# Altium footprint library TH Active.PcbLib: 11 footprints
Each footprint in its own frame and in the unit in brackets; x right, y up, seen from the top. Pads: shape width x height; smd on the part's side, far side on the other; paste and mask are expansions set on the pad; w line width, h text height; cw(c..) or ccw(c..) is an arc to the next point about the centre after c.
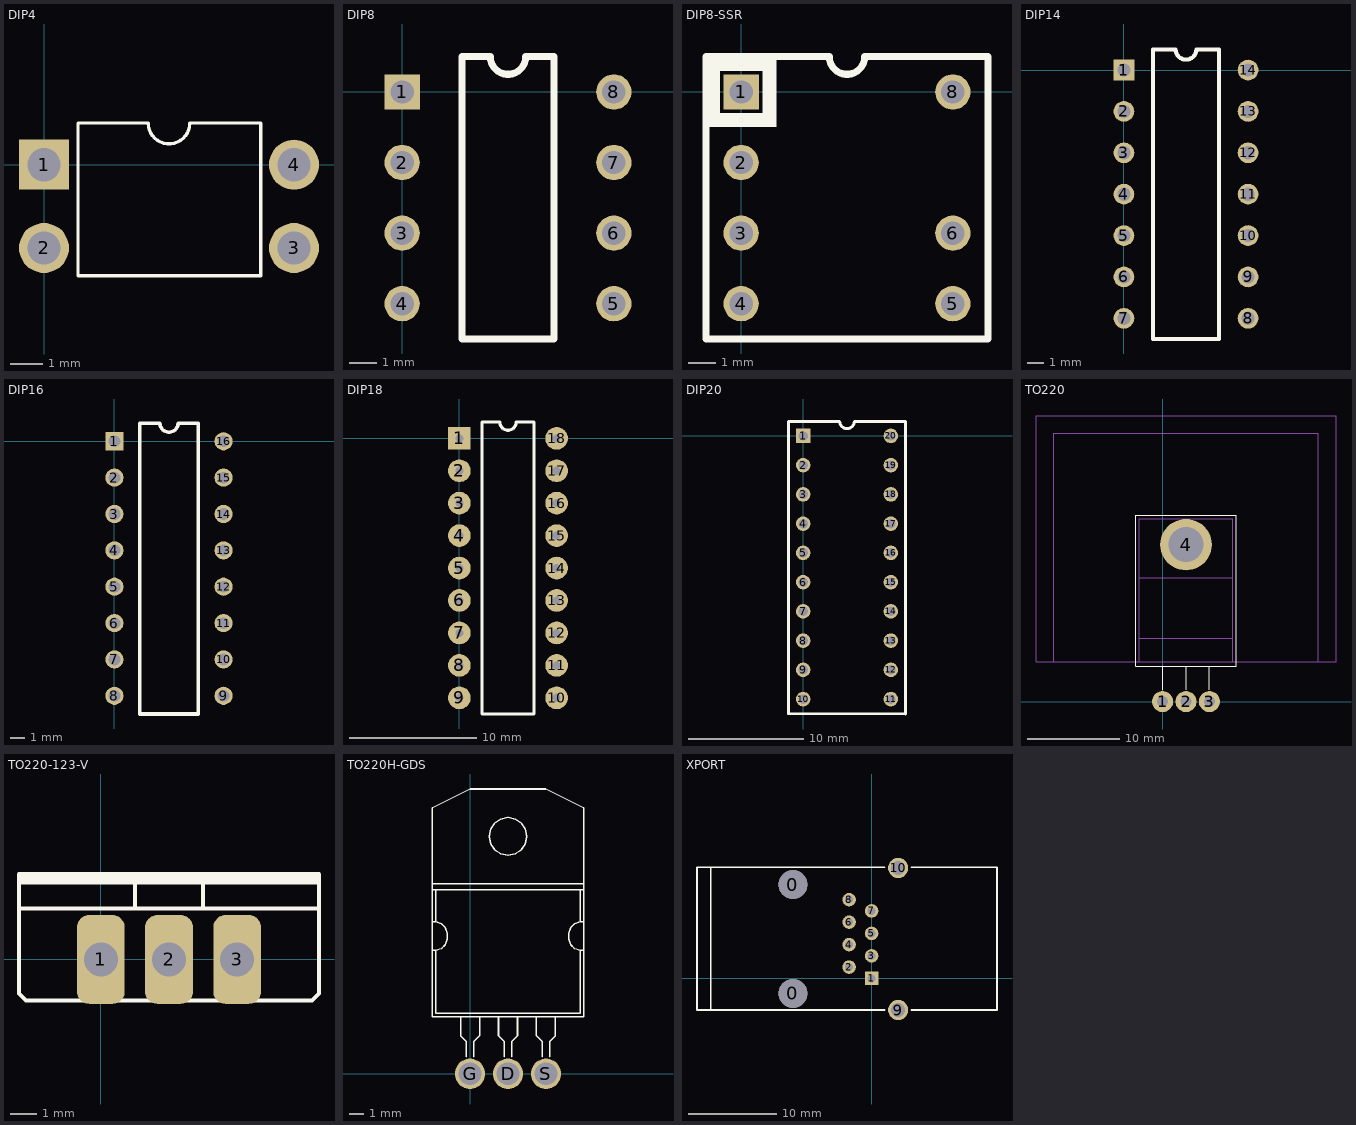
[diagram p0: the footprints below, top view; thin cyan lines are the x and y axes]

## DIP4 [mil]
pads (4):
  rect 60x60 hole 40: 1(0,0)
  round 60 hole 40: 2(0,-100) 3(300,-100) 4(300,0)
Top Overlay:
  lines w4: 40.71,-133.46 260.28,-133.46 260.28,50 175,50 cw(c150,50) 125,50 40.71,50 40.71,-133.46

## DIP8 [mil]
pads (8):
  rect 50x50 hole 33: 1(0,0)
  round 50 hole 33: 2(0,-100) 3(0,-200) 4(0,-300) 5(300,-300) 6(300,-200) 7(300,-100) 8(300,0)
Top Overlay:
  lines w10: 85,-350 85,50 125,50 ccw(c150,50) 175,50 215,50 215,-350 85,-350

## DIP8-SSR [mil]
pads (7):
  rect 50x50 hole 33: 1(0,0)
  round 50 hole 33: 2(0,-100) 3(0,-200) 4(0,-300) 5(300,-300) 6(300,-200) 8(300,0)
Top Overlay:
  rectangle: -50,-40 -30,50
  rectangle: -50,30 30,50
  rectangle: 30,-50 50,50
  rectangle: -45,-50 40,-30
  lines w10: -50,-350 -50,50 125,50 ccw(c150,50) 175,50 350,50 350,-350 -50,-350
3D body: height 200, standoff -98.03, extent -4.92,-364.96 304.93,64.96

## DIP14 [mil]
pads (14):
  rect 50x50 hole 32: 1(0,0)
  round 50 hole 32: 2(0,-100) 3(0,-200) 4(0,-300) 5(0,-400) 6(0,-500) 7(0,-600) 8(300,-600) 9(300,-500) 10(300,-400) 11(300,-300) 12(300,-200) 13(300,-100) 14(300,0)
Top Overlay:
  lines w10: 70,-650 230,-650 230,50 175,50 cw(c150,50) 125,50 70,50 70,-650

## DIP16 [mil]
pads (16):
  rect 50x50 hole 32: 1(0,0)
  round 50 hole 32: 2(0,-100) 3(0,-200) 4(0,-300) 5(0,-400) 6(0,-500) 7(0,-600) 8(0,-700) 9(300,-700) 10(300,-600) 11(300,-500) 12(300,-400) 13(300,-300) 14(300,-200) 15(300,-100) 16(300,0)
Top Overlay:
  lines w10: 70,-750 230,-750 230,50 175,50 cw(c150,50) 125,50 70,50 70,-750

## DIP18 [mil]
pads (18):
  rect 70x70 hole 25: 1(0,0)
  round 70 hole 25: 2(0,-100) 3(0,-200) 4(0,-300) 5(0,-400) 6(0,-500) 7(0,-600) 8(0,-700) 9(0,-800) 10(300,-800) 11(300,-700) 12(300,-600) 13(300,-500) 14(300,-400) 15(300,-300) 16(300,-200) 17(300,-100) 18(300,0)
Top Overlay:
  lines w10: 70,-850 70,50 125,50 ccw(c150,50) 175,50 230,50 230,-850 70,-850

## DIP20 [mil]
pads (20):
  rect 50x50 hole 32: 1(0,0)
  round 50 hole 32: 2(0,-100) 3(0,-200) 4(0,-300) 5(0,-400) 6(0,-500) 7(0,-600) 8(0,-700) 9(0,-800) 10(0,-900) 11(300,-900) 12(300,-800) 13(300,-700) 14(300,-600) 15(300,-500) 16(300,-400) 17(300,-300) 18(300,-200) 19(300,-100) 20(300,0)
Top Overlay:
  lines w10: -49.84,-950 349.84,-950.98 349.84,49.02 175,50 cw(c150,50) 125,50 -49.84,50 -49.84,-950

## TO220 [mil]
pads (4):
  round 90 hole 48: 1(0,0) 2(100,0) 3(200,0)
  round 220 hole 150: 4(100,670)
Top Overlay:
  lines w5: 0,51.6 0,150 ; 100,51.6 100,150 ; 200,51.6 200,150 ; 100,150 314.5,150 314.5,796 100,796 -114.5,796 -114.5,150 100,150
Mechanical 2:
  lines w0.1: -465.5,170 -465.5,1145 100,1145 665.5,1145 665.5,170 ; -100.5,270 300.5,270 ; -100.5,528 300.5,528 ; -100.5,170 300.5,170 ; -100.5,170 -100.5,780 300.5,780 300.5,170 ; -100.5,170 -540.5,170 -540.5,1220 740.5,1220 740.5,170 300.5,170

## TO220-123-V [mil] "TO220 123 pin numbering Vertical mount"
pads (3):
  rrect50% 70x130 hole 50: 1(0,0) 2(100,0) 3(200,0)
Top Overlay:
  rectangle: -120,110 320,125
  lines w6: -120,75 320,75 ; 50,75 50,125 ; 150,75 150,125 ; -120,-50 -120,125 320,125 320,-50 310,-60 -110,-60 -120,-50
3D body: height 944.72, standoff -210, extent -120.72,-58.85 320.74,125.8

## TO220H-GDS [mil]
pads (3):
  round 80 hole 60: D(100,0) G(0,0) S(200,0)
Top Overlay:
  lines w4: -100,325 -90,325 ; -100,400 -90,400 ; -100,485 300,485 ; -100,500 300,500 ; -90,485 -90,400 ; -25,150 -25,100 -10,85 -10,45 ; 10,45 10,85 25,100 25,150 ; 75,150 75,100 90,85 90,45 ; 110,45 110,85 125,100 125,150 ; 175,150 175,100 190,85 190,45 ; 210,45 210,85 225,100 225,150 ; 290,485 290,400 ; 300,325 290,325 ; 300,400 290,400 ; -90,325 -75,330 -65,340 -60,355 -60,370 -65,385 -75,395 -90,400 ; -90,325 -90,160 290,160 290,325 ; 290,325 275,330 265,340 260,355 260,370 265,385 275,395 290,400 ; -100,150 -100,700 0,750 200,750 300,700 300,150 -100,150 ; 50,625 55,645 65,660 80,670 100,675 120,670 135,660 145,645 150,625 145,605 135,590 120,580 100,575 80,580 65,590 55,605 50,625
3D body: height 12, standoff -62, extent -100,150 300,750
3D body: height 132, standoff 12, extent -100,150 300,500
3D body: height 80, standoff -120, extent -20,-20 20,20
3D body: height 100, standoff 70, extent -35,-20 35,150
3D body: height 80, standoff -120, extent 80,-20 120,20
3D body: height 100, standoff 70, extent 65,-20 135,150
3D body: height 100, standoff 70, extent 165,-20 235,150
3D body: height 80, standoff -120, extent 180,-20 220,20

## XPORT [mil]
pads (12):
  round 128 hole 128 unplated: 0(-350,-67) 0(-350,417)
  rect 60x60 hole 35: 1(0,0)
  round 60 hole 35: 2(-100,50) 3(0,100) 4(-100,150) 5(0,200) 6(-100,250) 7(0,300) 8(-100,350)
  round 90 hole 63: 9(118,-141) 10(118,491)
Top Overlay:
  lines w7: -715,-141 -715,494
  lines w8: 58,-141 -777,-141 -777,-121 -777,494 58,494 ; 178,-141 558,-141 558,494 178,494